# Altium integrated library Wurth-inductor.IntLib: 175 symbols (part 2 of 3)
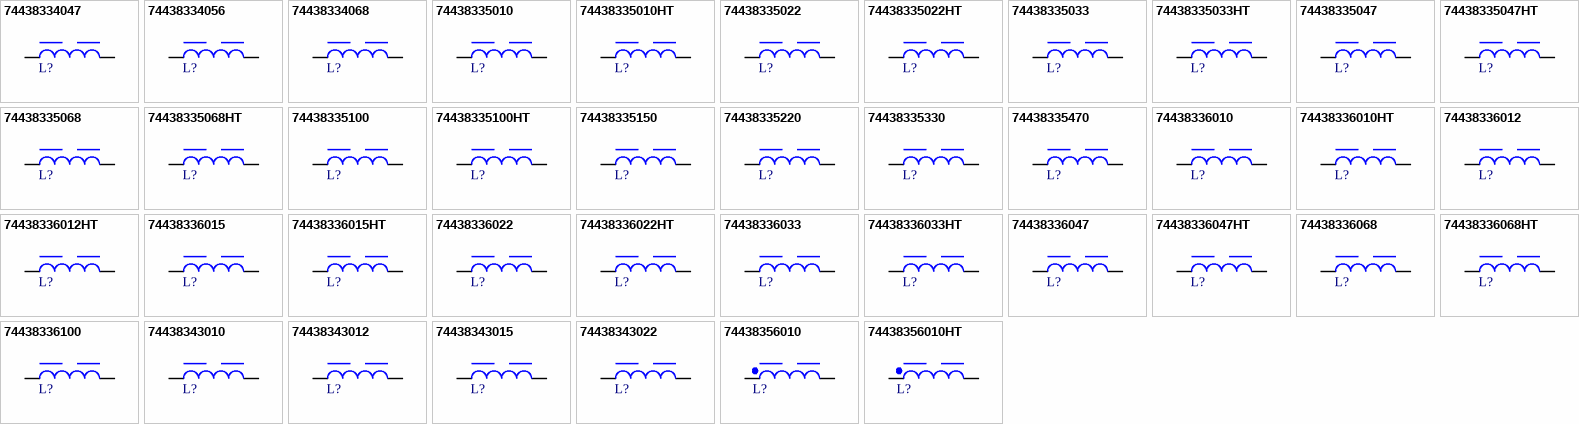
[diagram p5: symbols 74438334047 to 74438356010HT]

## 74438335470
designator L?, comment 47uH, 0.39A  (value not drawn)
WE-MAPI, size 3015, 47uH, 0.39A, 2300mOhm; Manufacturer Part Number: 74438335470; Manufacturer: Wurth Elektronik; Case/Size Code: 3015; DC Resistance: 2090mOhm; Saturation Current: 1.18A; Self Resonant Frequency: 8MHz; Match Code: WE-MAPI; ComponentLink1Description: Website Link; ComponentLink1URL: https://www.we-online.com/redexpert/article/74438335470?ad; ComponentLink2Description: Datasheet Link; ComponentLink2URL: https://www.we-online.com/redexpert/spec/74438335470?ad; Mount: Surface Mount; Operating Temperature Max: 125°C; Operating Temperature Min: -40°C; Packaging: Tape and Reel; Length: 3mm; Width: 3mm; Height: 1.5mm; DC Resistance Max: 2300mOhm; Inductance: 47uH; Rated Current: 0.39A
footprint WE-MAPI_3015
simulation model 3015_74438335470_47u
pins: 1, 2

## 74438336010
designator L?, comment 1uH, 4A  (value not drawn)
WE-MAPI, size 3020, 1uH, 4A, 32mOhm; Manufacturer Part Number: 74438336010; Manufacturer: Wurth Elektronik; Case/Size Code: 3020; DC Resistance: 26mOhm; Saturation Current: 5A; Self Resonant Frequency: 67MHz; Match Code: WE-MAPI; ComponentLink1Description: Website Link; ComponentLink1URL: https://www.we-online.com/redexpert/article/74438336010?ad; ComponentLink2Description: Datasheet Link; ComponentLink2URL: https://www.we-online.com/redexpert/spec/74438336010?ad; Mount: Surface Mount; Operating Temperature Max: 125°C; Operating Temperature Min: -40°C; Packaging: Tape and Reel; Length: 3mm; Width: 3mm; Height: 2mm; DC Resistance Max: 32mOhm; Inductance: 1uH; Rated Current: 4A
footprint WE-MAPI_3020
simulation model 3020_74438336010_1u
pins: 1, 2

## 74438336010HT
designator L?, comment 1uH, 5.8A  (value not drawn)
WE-MAPI, size 3020, 1uH, 5.8A, 32.8mOhm; Manufacturer Part Number: 74438336010HT; Manufacturer: Wurth Elektronik; Case/Size Code: 3020; Operating Voltage (DC): 80V; Saturation Current: 6.3A; Self Resonant Frequency: 67MHz; Match Code: WE-MAPI; ComponentLink1Description: Website Link; ComponentLink1URL: https://www.we-online.com/redexpert/article/74438336010HT?ad; ComponentLink2Description: Datasheet Link; ComponentLink2URL: https://www.we-online.com/redexpert/spec/74438336010HT?ad; Mount: Surface Mount; Operating Temperature Max: 150°C; Operating Temperature Min: -55°C; Packaging: Tape and Reel; Length: 3mm; Width: 3mm; Height: 2mm; DC Resistance Max: 32.8mOhm; Inductance: 1uH; Rated Current: 5.8A
footprint WE-MAPI_3020
simulation model 3020HT_74438336010HT_1u
pins: 1, 2

## 74438336012
designator L?, comment 1.2uH, 3.9A  (value not drawn)
WE-MAPI, size 3020, 1.2uH, 3.9A, 36mOhm; Manufacturer Part Number: 74438336012; Manufacturer: Wurth Elektronik; Case/Size Code: 3020; DC Resistance: 30mOhm; Saturation Current: 4.75A; Self Resonant Frequency: 57MHz; Match Code: WE-MAPI; ComponentLink1Description: Website Link; ComponentLink1URL: https://www.we-online.com/redexpert/article/74438336012?ad; ComponentLink2Description: Datasheet Link; ComponentLink2URL: https://www.we-online.com/redexpert/spec/74438336012?ad; Mount: Surface Mount; Operating Temperature Max: 125°C; Operating Temperature Min: -40°C; Packaging: Tape and Reel; Length: 3mm; Width: 3mm; Height: 2mm; DC Resistance Max: 36mOhm; Inductance: 1.2uH; Rated Current: 3.9A
footprint WE-MAPI_3020
simulation model 3020_74438336012_1.2u
pins: 1, 2

## 74438336012HT
designator L?, comment 1.2uH, 5.4A  (value not drawn)
WE-MAPI, size 3020, 1.2uH, 5.4A, 37.5mOhm; Manufacturer Part Number: 74438336012HT; Manufacturer: Wurth Elektronik; Case/Size Code: 3020; Operating Voltage (DC): 80V; Saturation Current: 6A; Self Resonant Frequency: 60MHz; Match Code: WE-MAPI; ComponentLink1Description: Website Link; ComponentLink1URL: https://www.we-online.com/redexpert/article/74438336012HT?ad; ComponentLink2Description: Datasheet Link; ComponentLink2URL: https://www.we-online.com/redexpert/spec/74438336012HT?ad; Mount: Surface Mount; Operating Temperature Max: 150°C; Operating Temperature Min: -55°C; Packaging: Tape and Reel; Length: 3mm; Width: 3mm; Height: 2mm; DC Resistance Max: 37.5mOhm; Inductance: 1.2uH; Rated Current: 5.4A
footprint WE-MAPI_3020
simulation model 3020HT_74438336012HT_1.2u
pins: 1, 2

## 74438336015
designator L?, comment 1.5uH, 3.7A  (value not drawn)
WE-MAPI, size 3020, 1.5uH, 3.7A, 39mOhm; Manufacturer Part Number: 74438336015; Manufacturer: Wurth Elektronik; Case/Size Code: 3020; DC Resistance: 33mOhm; Saturation Current: 4.5A; Self Resonant Frequency: 51MHz; Match Code: WE-MAPI; ComponentLink1Description: Website Link; ComponentLink1URL: https://www.we-online.com/redexpert/article/74438336015?ad; ComponentLink2Description: Datasheet Link; ComponentLink2URL: https://www.we-online.com/redexpert/spec/74438336015?ad; Mount: Surface Mount; Operating Temperature Max: 125°C; Operating Temperature Min: -40°C; Packaging: Tape and Reel; Length: 3mm; Width: 3mm; Height: 2mm; DC Resistance Max: 39mOhm; Inductance: 1.5uH; Rated Current: 3.7A
footprint WE-MAPI_3020
simulation model 3020_74438336015_1.5u
pins: 1, 2

## 74438336015HT
designator L?, comment 1.5uH, 5.2A  (value not drawn)
WE-MAPI, size 3020, 1.5uH, 5.2A, 40.5mOhm; Manufacturer Part Number: 74438336015HT; Manufacturer: Wurth Elektronik; Case/Size Code: 3020; Operating Voltage (DC): 80V; Saturation Current: 5.5A; Self Resonant Frequency: 53MHz; Match Code: WE-MAPI; ComponentLink1Description: Website Link; ComponentLink1URL: https://www.we-online.com/redexpert/article/74438336015HT?ad; ComponentLink2Description: Datasheet Link; ComponentLink2URL: https://www.we-online.com/redexpert/spec/74438336015HT?ad; Mount: Surface Mount; Operating Temperature Max: 150°C; Operating Temperature Min: -55°C; Packaging: Tape and Reel; Length: 3mm; Width: 3mm; Height: 2mm; DC Resistance Max: 40.5mOhm; Inductance: 1.5uH; Rated Current: 5.2A
footprint WE-MAPI_3020
simulation model 3020HT_74438336015HT_1.5u
pins: 1, 2

## 74438336022
designator L?, comment 2.2uH, 2.4A  (value not drawn)
WE-MAPI, size 3020, 2.2uH, 2.4A, 80mOhm; Manufacturer Part Number: 74438336022; Manufacturer: Wurth Elektronik; Case/Size Code: 3020; DC Resistance: 67mOhm; Saturation Current: 4.3A; Self Resonant Frequency: 42MHz; Match Code: WE-MAPI; ComponentLink1Description: Website Link; ComponentLink1URL: https://www.we-online.com/redexpert/article/74438336022?ad; ComponentLink2Description: Datasheet Link; ComponentLink2URL: https://www.we-online.com/redexpert/spec/74438336022?ad; Mount: Surface Mount; Operating Temperature Max: 125°C; Operating Temperature Min: -40°C; Packaging: Tape and Reel; Length: 3mm; Width: 3mm; Height: 2mm; DC Resistance Max: 80mOhm; Inductance: 2.2uH; Rated Current: 2.4A
footprint WE-MAPI_3020
simulation model 3020_74438336022_2.2u
pins: 1, 2

## 74438336022HT
designator L?, comment 2.2uH, 6.4A  (value not drawn)
WE-MAPI, size 3020, 2.2uH, 6.4A, 65.5mOhm; Manufacturer Part Number: 74438336022HT; Manufacturer: Wurth Elektronik; Case/Size Code: 3020; Operating Voltage (DC): 80V; Saturation Current: 5.2A; Self Resonant Frequency: 47MHz; Match Code: WE-MAPI; ComponentLink1Description: Website Link; ComponentLink1URL: https://www.we-online.com/redexpert/article/74438336022HT?ad; ComponentLink2Description: Datasheet Link; ComponentLink2URL: https://www.we-online.com/redexpert/spec/74438336022HT?ad; Mount: Surface Mount; Operating Temperature Max: 150°C; Operating Temperature Min: -55°C; Packaging: Tape and Reel; Length: 3mm; Width: 3mm; Height: 2mm; DC Resistance Max: 65.5mOhm; Inductance: 2.2uH; Rated Current: 6.4A
footprint WE-MAPI_3020
simulation model 3020HT_74438336022HT_2.2u
pins: 1, 2

## 74438336033
designator L?, comment 3.3uH, 2.2A  (value not drawn)
WE-MAPI, size 3020, 3.3uH, 2.2A, 114mOhm; Manufacturer Part Number: 74438336033; Manufacturer: Wurth Elektronik; Case/Size Code: 3020; DC Resistance: 99mOhm; Saturation Current: 4.25A; Self Resonant Frequency: 39MHz; Match Code: WE-MAPI; ComponentLink1Description: Website Link; ComponentLink1URL: https://www.we-online.com/redexpert/article/74438336033?ad; ComponentLink2Description: Datasheet Link; ComponentLink2URL: https://www.we-online.com/redexpert/spec/74438336033?ad; Mount: Surface Mount; Operating Temperature Max: 125°C; Operating Temperature Min: -40°C; Packaging: Tape and Reel; Length: 3mm; Width: 3mm; Height: 2mm; DC Resistance Max: 114mOhm; Inductance: 3.3uH; Rated Current: 2.2A
footprint WE-MAPI_3020
simulation model 3020_74438336033_3.3u
pins: 1, 2

## 74438336033HT
designator L?, comment 3.3uH, 3.1A  (value not drawn)
WE-MAPI, size 3020, 3.3uH, 3.1A, 98.8mOhm; Manufacturer Part Number: 74438336033HT; Manufacturer: Wurth Elektronik; Case/Size Code: 3020; Operating Voltage (DC): 80V; Saturation Current: 4.3A; Self Resonant Frequency: 37MHz; Match Code: WE-MAPI; ComponentLink1Description: Website Link; ComponentLink1URL: https://www.we-online.com/redexpert/article/74438336033HT?ad; ComponentLink2Description: Datasheet Link; ComponentLink2URL: https://www.we-online.com/redexpert/spec/74438336033HT?ad; Mount: Surface Mount; Operating Temperature Max: 150°C; Operating Temperature Min: -55°C; Packaging: Tape and Reel; Length: 3mm; Width: 3mm; Height: 2mm; DC Resistance Max: 98.8mOhm; Inductance: 3.3uH; Rated Current: 3.1A
footprint WE-MAPI_3020
simulation model 3020HT_74438336033HT_3.3u
pins: 1, 2

## 74438336047
designator L?, comment 4.7uH, 1.9A  (value not drawn)
WE-MAPI, size 3020, 4.7uH, 1.9A, 158mOhm; Manufacturer Part Number: 74438336047; Manufacturer: Wurth Elektronik; Case/Size Code: 3020; DC Resistance: 137mOhm; Saturation Current: 3.9A; Self Resonant Frequency: 30MHz; Match Code: WE-MAPI; ComponentLink1Description: Website Link; ComponentLink1URL: https://www.we-online.com/redexpert/article/74438336047?ad; ComponentLink2Description: Datasheet Link; ComponentLink2URL: https://www.we-online.com/redexpert/spec/74438336047?ad; Mount: Surface Mount; Operating Temperature Max: 125°C; Operating Temperature Min: -40°C; Packaging: Tape and Reel; Length: 3mm; Width: 3mm; Height: 2mm; DC Resistance Max: 158mOhm; Inductance: 4.7uH; Rated Current: 1.9A
footprint WE-MAPI_3020
simulation model 3020_74438336047_4.7u
pins: 1, 2

## 74438336047HT
designator L?, comment 4.7uH, 2.5A  (value not drawn)
WE-MAPI, size 3020, 4.7uH, 2.5A, 150.2mOhm; Manufacturer Part Number: 74438336047HT; Manufacturer: Wurth Elektronik; Case/Size Code: 3020; Operating Voltage (DC): 80V; Saturation Current: 4.1A; Self Resonant Frequency: 28MHz; Match Code: WE-MAPI; ComponentLink1Description: Website Link; ComponentLink1URL: https://www.we-online.com/redexpert/article/74438336047HT?ad; ComponentLink2Description: Datasheet Link; ComponentLink2URL: https://www.we-online.com/redexpert/spec/74438336047HT?ad; Mount: Surface Mount; Operating Temperature Max: 150°C; Operating Temperature Min: -55°C; Packaging: Tape and Reel; Length: 3mm; Width: 3mm; Height: 2mm; DC Resistance Max: 150.2mOhm; Inductance: 4.7uH; Rated Current: 2.5A
footprint WE-MAPI_3020
simulation model 3020HT_74438336047HT_4.7u
pins: 1, 2

## 74438336068
designator L?, comment 6.8uH, 1.6A  (value not drawn)
WE-MAPI, size 3020, 6.8uH, 1.6A, 193mOhm; Manufacturer Part Number: 74438336068; Manufacturer: Wurth Elektronik; Case/Size Code: 3020; DC Resistance: 168mOhm; Saturation Current: 2.85A; Self Resonant Frequency: 22MHz; Match Code: WE-MAPI; ComponentLink1Description: Website Link; ComponentLink1URL: https://www.we-online.com/redexpert/article/74438336068?ad; ComponentLink2Description: Datasheet Link; ComponentLink2URL: https://www.we-online.com/redexpert/spec/74438336068?ad; Mount: Surface Mount; Operating Temperature Max: 125°C; Operating Temperature Min: -40°C; Packaging: Tape and Reel; Length: 3mm; Width: 3mm; Height: 2mm; DC Resistance Max: 193mOhm; Inductance: 6.8uH; Rated Current: 1.6A
footprint WE-MAPI_3020
simulation model 3020_74438336068_6.8u
pins: 1, 2

## 74438336068HT
designator L?, comment 6.8uH, 2A  (value not drawn)
WE-MAPI, size 3020, 6.8uH, 2A, 227.1mOhm; Manufacturer Part Number: 74438336068HT; Manufacturer: Wurth Elektronik; Case/Size Code: 3020; Operating Voltage (DC): 80V; Saturation Current: 3.7A; Self Resonant Frequency: 22MHz; Match Code: WE-MAPI; ComponentLink1Description: Website Link; ComponentLink1URL: https://www.we-online.com/redexpert/article/74438336068HT?ad; ComponentLink2Description: Datasheet Link; ComponentLink2URL: https://www.we-online.com/redexpert/spec/74438336068HT?ad; Mount: Surface Mount; Operating Temperature Max: 150°C; Operating Temperature Min: -55°C; Packaging: Tape and Reel; Length: 3mm; Width: 3mm; Height: 2mm; DC Resistance Max: 227.1mOhm; Inductance: 6.8uH; Rated Current: 2A
footprint WE-MAPI_3020
simulation model 3020HT_74438336068HT_6.8u
pins: 1, 2

## 74438336100
designator L?, comment 10uH, 1.2A  (value not drawn)
WE-MAPI, size 3020, 10uH, 1.2A, 322mOhm; Manufacturer Part Number: 74438336100; Manufacturer: Wurth Elektronik; Case/Size Code: 3020; DC Resistance: 280mOhm; Saturation Current: 2.35A; Self Resonant Frequency: 18MHz; Match Code: WE-MAPI; ComponentLink1Description: Website Link; ComponentLink1URL: https://www.we-online.com/redexpert/article/74438336100?ad; ComponentLink2Description: Datasheet Link; ComponentLink2URL: https://www.we-online.com/redexpert/spec/74438336100?ad; Mount: Surface Mount; Operating Temperature Max: 125°C; Operating Temperature Min: -40°C; Packaging: Tape and Reel; Length: 3mm; Width: 3mm; Height: 2mm; DC Resistance Max: 322mOhm; Inductance: 10uH; Rated Current: 1.2A
footprint WE-MAPI_3020
simulation model 3020_74438336100_10u
pins: 1, 2

## 74438343010
designator L?, comment 1uH, 1.8A  (value not drawn)
WE-MAPI, size 2010, 1uH, 1.8A, 104mOhm; Manufacturer Part Number: 74438343010; Manufacturer: Wurth Elektronik; Case/Size Code: 2010; DC Resistance: 86mOhm; Saturation Current: 3.9A; Self Resonant Frequency: 99MHz; Match Code: WE-MAPI; ComponentLink1Description: Website Link; ComponentLink1URL: https://www.we-online.com/redexpert/article/74438343010?ad; ComponentLink2Description: Datasheet Link; ComponentLink2URL: https://www.we-online.com/redexpert/spec/74438343010?ad; Mount: Surface Mount; Operating Temperature Max: 125°C; Operating Temperature Min: -40°C; Packaging: Tape and Reel; Length: 2mm; Width: 1.6mm; Height: 1mm; DC Resistance Max: 104mOhm; Inductance: 1uH; Rated Current: 1.8A
footprint WE-MAPI_2010
simulation model 2010_74438343010_1u
pins: 1, 2

## 74438343012
designator L?, comment 1.2uH, 1.5A  (value not drawn)
WE-MAPI, size 2010, 1.2uH, 1.5A, 136mOhm; Manufacturer Part Number: 74438343012; Manufacturer: Wurth Elektronik; Case/Size Code: 2010; DC Resistance: 114mOhm; Saturation Current: 3.8A; Self Resonant Frequency: 96MHz; Match Code: WE-MAPI; ComponentLink1Description: Website Link; ComponentLink1URL: https://www.we-online.com/redexpert/article/74438343012?ad; ComponentLink2Description: Datasheet Link; ComponentLink2URL: https://www.we-online.com/redexpert/spec/74438343012?ad; Mount: Surface Mount; Operating Temperature Max: 125°C; Operating Temperature Min: -40°C; Packaging: Tape and Reel; Length: 2mm; Width: 1.6mm; Height: 1mm; DC Resistance Max: 136mOhm; Inductance: 1.2uH; Rated Current: 1.5A
footprint WE-MAPI_2010
simulation model 2010_74438343012_1.2u
pins: 1, 2

## 74438343015
designator L?, comment 1.5uH, 1.3A  (value not drawn)
WE-MAPI, size 2010, 1.5uH, 1.3A, 180mOhm; Manufacturer Part Number: 74438343015; Manufacturer: Wurth Elektronik; Case/Size Code: 2010; DC Resistance: 150mOhm; Saturation Current: 3A; Self Resonant Frequency: 85MHz; Match Code: WE-MAPI; ComponentLink1Description: Website Link; ComponentLink1URL: https://www.we-online.com/redexpert/article/74438343015?ad; ComponentLink2Description: Datasheet Link; ComponentLink2URL: https://www.we-online.com/redexpert/spec/74438343015?ad; Mount: Surface Mount; Operating Temperature Max: 125°C; Operating Temperature Min: -40°C; Packaging: Tape and Reel; Length: 2mm; Width: 1.6mm; Height: 1mm; DC Resistance Max: 180mOhm; Inductance: 1.5uH; Rated Current: 1.3A
footprint WE-MAPI_2010
simulation model 2010_74438343015_1.5u
pins: 1, 2

## 74438343022
designator L?, comment 2.2uH, 1.1A  (value not drawn)
WE-MAPI, size 2010, 2.2uH, 1.1A, 270mOhm; Manufacturer Part Number: 74438343022; Manufacturer: Wurth Elektronik; Case/Size Code: 2010; DC Resistance: 225mOhm; Saturation Current: 2.5A; Self Resonant Frequency: 70MHz; Match Code: WE-MAPI; ComponentLink1Description: Website Link; ComponentLink1URL: https://www.we-online.com/redexpert/article/74438343022?ad; ComponentLink2Description: Datasheet Link; ComponentLink2URL: https://www.we-online.com/redexpert/spec/74438343022?ad; Mount: Surface Mount; Operating Temperature Max: 125°C; Operating Temperature Min: -40°C; Packaging: Tape and Reel; Length: 2mm; Width: 1.6mm; Height: 1mm; DC Resistance Max: 270mOhm; Inductance: 2.2uH; Rated Current: 1.1A
footprint WE-MAPI_2010
simulation model 2010_74438343022_2.2u
pins: 1, 2

## 74438356010
designator L?, comment 1uH, 7.2A  (value not drawn)
WE-MAPI, size 4020, 1uH, 7.2A, 15mOhm; Manufacturer Part Number: 74438356010; Manufacturer: Wurth Elektronik; Case/Size Code: 4020; DC Resistance: 12mOhm; Saturation Current: 9A; Self Resonant Frequency: 55MHz; Match Code: WE-MAPI; ComponentLink1Description: Website Link; ComponentLink1URL: https://www.we-online.com/redexpert/article/74438356010?ad; ComponentLink2Description: Datasheet Link; ComponentLink2URL: https://www.we-online.com/redexpert/spec/74438356010?ad; Mount: Surface Mount; Operating Temperature Max: 125°C; Operating Temperature Min: -40°C; Packaging: Tape and Reel; Length: 4.1mm; Width: 4.1mm; Height: 2.1mm; DC Resistance Max: 15mOhm; Inductance: 1uH; Rated Current: 7.2A
footprint WE-MAPI_4020
simulation model 4020_74438356010_1u
pins: 1, 2

## 74438356010HT
designator L?, comment 1uH, 7.2A  (value not drawn)
WE-MAPI, size 4020, 1uH, 7.2A, 15.5mOhm; Manufacturer Part Number: 74438356010HT; Manufacturer: Wurth Elektronik; Case/Size Code: 4020; DC Resistance: 13.5mOhm; Saturation Current: 6.5A; Self Resonant Frequency: 46MHz; Match Code: WE-MAPI; ComponentLink1Description: Website Link; ComponentLink1URL: https://www.we-online.com/redexpert/article/74438356010HT?ad; ComponentLink2Description: Datasheet Link; ComponentLink2URL: https://www.we-online.com/redexpert/spec/74438356010HT?ad; Mount: Surface Mount; Operating Temperature Max: 150°C; Operating Temperature Min: -55°C; Packaging: Tape and Reel; Length: 4.1mm; Width: 4.1mm; Height: 2.1mm; DC Resistance Max: 15.5mOhm; Inductance: 1uH; Rated Current: 7.2A
footprint WE-MAPI_4020
simulation model 4020_74438356010HT_1u
pins: 1, 2

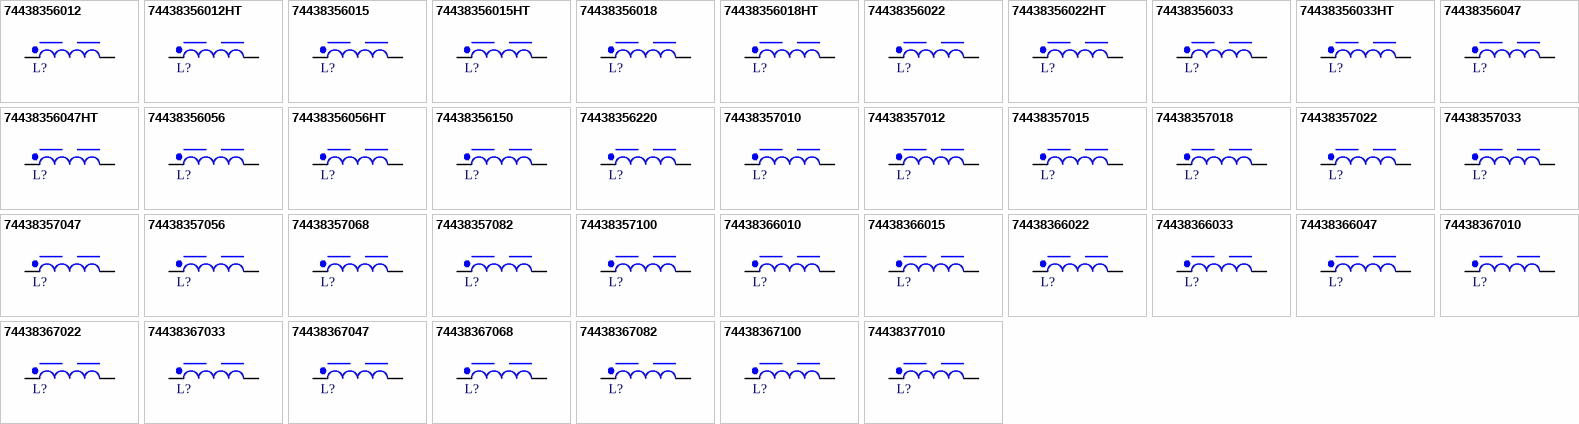
[diagram p2: symbols 74438356012 to 74438377010]

## 74438356012
designator L?, comment 1.2uH, 5.8A  (value not drawn)
WE-MAPI, size 4020, 1.2uH, 5.8A, 18mOhm; Manufacturer Part Number: 74438356012; Manufacturer: Wurth Elektronik; Case/Size Code: 4020; DC Resistance: 15mOhm; Saturation Current: 9A; Self Resonant Frequency: 52MHz; Match Code: WE-MAPI; ComponentLink1Description: Website Link; ComponentLink1URL: https://www.we-online.com/redexpert/article/74438356012?ad; ComponentLink2Description: Datasheet Link; ComponentLink2URL: https://www.we-online.com/redexpert/spec/74438356012?ad; Mount: Surface Mount; Operating Temperature Max: 125°C; Operating Temperature Min: -40°C; Packaging: Tape and Reel; Length: 4.1mm; Width: 4.1mm; Height: 2.1mm; DC Resistance Max: 18mOhm; Inductance: 1.2uH; Rated Current: 5.8A
footprint WE-MAPI_4020
simulation model 4020_74438356012_1.2u
pins: 1, 2

## 74438356012HT
designator L?, comment 1.2uH, 5.8A  (value not drawn)
WE-MAPI, size 4020, 1.2uH, 5.8A, 18.4mOhm; Manufacturer Part Number: 74438356012HT; Manufacturer: Wurth Elektronik; Case/Size Code: 4020; DC Resistance: 16mOhm; Saturation Current: 6.9A; Self Resonant Frequency: 45MHz; Match Code: WE-MAPI; ComponentLink1Description: Website Link; ComponentLink1URL: https://www.we-online.com/redexpert/article/74438356012HT?ad; ComponentLink2Description: Datasheet Link; ComponentLink2URL: https://www.we-online.com/redexpert/spec/74438356012HT?ad; Mount: Surface Mount; Operating Temperature Max: 150°C; Operating Temperature Min: -55°C; Packaging: Tape and Reel; Length: 4.1mm; Width: 4.1mm; Height: 2.1mm; DC Resistance Max: 18.4mOhm; Inductance: 1.2uH; Rated Current: 5.8A
footprint WE-MAPI_4020
simulation model 4020_74438356012HT_1.2u
pins: 1, 2

## 74438356015
designator L?, comment 1.5uH, 5.8A  (value not drawn)
WE-MAPI, size 4020, 1.5uH, 5.8A, 19mOhm; Manufacturer Part Number: 74438356015; Manufacturer: Wurth Elektronik; Case/Size Code: 4020; DC Resistance: 16mOhm; Saturation Current: 7.8A; Self Resonant Frequency: 48MHz; Match Code: WE-MAPI; ComponentLink1Description: Website Link; ComponentLink1URL: https://www.we-online.com/redexpert/article/74438356015?ad; ComponentLink2Description: Datasheet Link; ComponentLink2URL: https://www.we-online.com/redexpert/spec/74438356015?ad; Mount: Surface Mount; Operating Temperature Max: 125°C; Operating Temperature Min: -40°C; Packaging: Tape and Reel; Length: 4.1mm; Width: 4.1mm; Height: 2.1mm; DC Resistance Max: 19mOhm; Inductance: 1.5uH; Rated Current: 5.8A
footprint WE-MAPI_4020
simulation model 4020_74438356015_1.5u
pins: 1, 2

## 74438356015HT
designator L?, comment 1.5uH, 5.5A  (value not drawn)
WE-MAPI, size 4020, 1.5uH, 5.5A, 20.7mOhm; Manufacturer Part Number: 74438356015HT; Manufacturer: Wurth Elektronik; Case/Size Code: 4020; DC Resistance: 18mOhm; Saturation Current: 6.6A; Self Resonant Frequency: 40MHz; Match Code: WE-MAPI; ComponentLink1Description: Website Link; ComponentLink1URL: https://www.we-online.com/redexpert/article/74438356015HT?ad; ComponentLink2Description: Datasheet Link; ComponentLink2URL: https://www.we-online.com/redexpert/spec/74438356015HT?ad; Mount: Surface Mount; Operating Temperature Max: 150°C; Operating Temperature Min: -55°C; Packaging: Tape and Reel; Length: 4.1mm; Width: 4.1mm; Height: 2.1mm; DC Resistance Max: 20.7mOhm; Inductance: 1.5uH; Rated Current: 5.5A
footprint WE-MAPI_4020
simulation model 4020_74438356015HT_1.5u
pins: 1, 2

## 74438356018
designator L?, comment 1.8uH, 4.6A  (value not drawn)
WE-MAPI, size 4020, 1.8uH, 4.6A, 30mOhm; Manufacturer Part Number: 74438356018; Manufacturer: Wurth Elektronik; Case/Size Code: 4020; DC Resistance: 24.5mOhm; Saturation Current: 6.5A; Self Resonant Frequency: 40MHz; Match Code: WE-MAPI; ComponentLink1Description: Website Link; ComponentLink1URL: https://www.we-online.com/redexpert/article/74438356018?ad; ComponentLink2Description: Datasheet Link; ComponentLink2URL: https://www.we-online.com/redexpert/spec/74438356018?ad; Mount: Surface Mount; Operating Temperature Max: 125°C; Operating Temperature Min: -40°C; Packaging: Tape and Reel; Length: 4.1mm; Width: 4.1mm; Height: 2.1mm; DC Resistance Max: 30mOhm; Inductance: 1.8uH; Rated Current: 4.6A
footprint WE-MAPI_4020
simulation model 4020_74438356018_1.8u
pins: 1, 2

## 74438356018HT
designator L?, comment 1.8uH, 4.6A  (value not drawn)
WE-MAPI, size 4020, 1.8uH, 4.6A, 29.9mOhm; Manufacturer Part Number: 74438356018HT; Manufacturer: Wurth Elektronik; Case/Size Code: 4020; DC Resistance: 26mOhm; Saturation Current: 6.2A; Self Resonant Frequency: 37.5MHz; Match Code: WE-MAPI; ComponentLink1Description: Website Link; ComponentLink1URL: https://www.we-online.com/redexpert/article/74438356018HT?ad; ComponentLink2Description: Datasheet Link; ComponentLink2URL: https://www.we-online.com/redexpert/spec/74438356018HT?ad; Mount: Surface Mount; Operating Temperature Max: 150°C; Operating Temperature Min: -55°C; Packaging: Tape and Reel; Length: 4.1mm; Width: 4.1mm; Height: 2.1mm; DC Resistance Max: 29.9mOhm; Inductance: 1.8uH; Rated Current: 4.6A
footprint WE-MAPI_4020
simulation model 4020_74438356018HT_1.8u
pins: 1, 2

## 74438356022
designator L?, comment 2.2uH, 4.7A  (value not drawn)
WE-MAPI, size 4020, 2.2uH, 4.7A, 35mOhm; Manufacturer Part Number: 74438356022; Manufacturer: Wurth Elektronik; Case/Size Code: 4020; DC Resistance: 29mOhm; Saturation Current: 6.2A; Self Resonant Frequency: 34MHz; Match Code: WE-MAPI; ComponentLink1Description: Website Link; ComponentLink1URL: https://www.we-online.com/redexpert/article/74438356022?ad; ComponentLink2Description: Datasheet Link; ComponentLink2URL: https://www.we-online.com/redexpert/spec/74438356022?ad; Mount: Surface Mount; Operating Temperature Max: 125°C; Operating Temperature Min: -40°C; Packaging: Tape and Reel; Length: 4.1mm; Width: 4.1mm; Height: 2.1mm; DC Resistance Max: 35mOhm; Inductance: 2.2uH; Rated Current: 4.7A
footprint WE-MAPI_4020
simulation model 4020_74438356022_2.2u
pins: 1, 2

## 74438356022HT
designator L?, comment 2.2uH, 4.5A  (value not drawn)
WE-MAPI, size 4020, 2.2uH, 4.5A, 32.2mOhm; Manufacturer Part Number: 74438356022HT; Manufacturer: Wurth Elektronik; Case/Size Code: 4020; DC Resistance: 28mOhm; Saturation Current: 5.6A; Self Resonant Frequency: 30MHz; Match Code: WE-MAPI; ComponentLink1Description: Website Link; ComponentLink1URL: https://www.we-online.com/redexpert/article/74438356022HT?ad; ComponentLink2Description: Datasheet Link; ComponentLink2URL: https://www.we-online.com/redexpert/spec/74438356022HT?ad; Mount: Surface Mount; Operating Temperature Max: 150°C; Operating Temperature Min: -55°C; Packaging: Tape and Reel; Length: 4.1mm; Width: 4.1mm; Height: 2.1mm; DC Resistance Max: 32.2mOhm; Inductance: 2.2uH; Rated Current: 4.5A
footprint WE-MAPI_4020
simulation model 4020_74438356022HT_2.2u
pins: 1, 2

## 74438356033
designator L?, comment 3.3uH, 3.6A  (value not drawn)
WE-MAPI, size 4020, 3.3uH, 3.6A, 48mOhm; Manufacturer Part Number: 74438356033; Manufacturer: Wurth Elektronik; Case/Size Code: 4020; DC Resistance: 39.9mOhm; Saturation Current: 5.5A; Self Resonant Frequency: 26MHz; Match Code: WE-MAPI; ComponentLink1Description: Website Link; ComponentLink1URL: https://www.we-online.com/redexpert/article/74438356033?ad; ComponentLink2Description: Datasheet Link; ComponentLink2URL: https://www.we-online.com/redexpert/spec/74438356033?ad; Mount: Surface Mount; Operating Temperature Max: 125°C; Operating Temperature Min: -40°C; Packaging: Tape and Reel; Length: 4.1mm; Width: 4.1mm; Height: 2.1mm; DC Resistance Max: 48mOhm; Inductance: 3.3uH; Rated Current: 3.6A
footprint WE-MAPI_4020
simulation model 4020_74438356033_3.3u
pins: 1, 2

## 74438356033HT
designator L?, comment 3.3uH, 3.6A  (value not drawn)
WE-MAPI, size 4020, 3.3uH, 3.6A, 51.8mOhm; Manufacturer Part Number: 74438356033HT; Manufacturer: Wurth Elektronik; Case/Size Code: 4020; DC Resistance: 45mOhm; Saturation Current: 4.8A; Self Resonant Frequency: 25.5MHz; Match Code: WE-MAPI; ComponentLink1Description: Website Link; ComponentLink1URL: https://www.we-online.com/redexpert/article/74438356033HT?ad; ComponentLink2Description: Datasheet Link; ComponentLink2URL: https://www.we-online.com/redexpert/spec/74438356033HT?ad; Mount: Surface Mount; Operating Temperature Max: 150°C; Operating Temperature Min: -55°C; Packaging: Tape and Reel; Length: 4.1mm; Width: 4.1mm; Height: 2.1mm; DC Resistance Max: 51.8mOhm; Inductance: 3.3uH; Rated Current: 3.6A
footprint WE-MAPI_4020
simulation model 4020_74438356033HT_3.3u
pins: 1, 2

## 74438356047
designator L?, comment 4.7uH, 2.9A  (value not drawn)
WE-MAPI, size 4020, 4.7uH, 2.9A, 76mOhm; Manufacturer Part Number: 74438356047; Manufacturer: Wurth Elektronik; Case/Size Code: 4020; DC Resistance: 63mOhm; Saturation Current: 4.7A; Self Resonant Frequency: 22MHz; Match Code: WE-MAPI; ComponentLink1Description: Website Link; ComponentLink1URL: https://www.we-online.com/redexpert/article/74438356047?ad; ComponentLink2Description: Datasheet Link; ComponentLink2URL: https://www.we-online.com/redexpert/spec/74438356047?ad; Mount: Surface Mount; Operating Temperature Max: 125°C; Operating Temperature Min: -40°C; Packaging: Tape and Reel; Length: 4.1mm; Width: 4.1mm; Height: 2.1mm; DC Resistance Max: 76mOhm; Inductance: 4.7uH; Rated Current: 2.9A
footprint WE-MAPI_4020
simulation model 4020_74438356047_4.7u
pins: 1, 2

## 74438356047HT
designator L?, comment 4.7uH, 3A  (value not drawn)
WE-MAPI, size 4020, 4.7uH, 3A, 74.8mOhm; Manufacturer Part Number: 74438356047HT; Manufacturer: Wurth Elektronik; Case/Size Code: 4020; DC Resistance: 65mOhm; Saturation Current: 3.7A; Self Resonant Frequency: 18MHz; Match Code: WE-MAPI; ComponentLink1Description: Website Link; ComponentLink1URL: https://www.we-online.com/redexpert/article/74438356047HT?ad; ComponentLink2Description: Datasheet Link; ComponentLink2URL: https://www.we-online.com/redexpert/spec/74438356047HT?ad; Mount: Surface Mount; Operating Temperature Max: 150°C; Operating Temperature Min: -55°C; Packaging: Tape and Reel; Length: 4.1mm; Width: 4.1mm; Height: 2.1mm; DC Resistance Max: 74.8mOhm; Inductance: 4.7uH; Rated Current: 3A
footprint WE-MAPI_4020
simulation model 4020_74438356047HT_4.7u
pins: 1, 2

## 74438356056
designator L?, comment 5.6uH, 2.8A  (value not drawn)
WE-MAPI, size 4020, 5.6uH, 2.8A, 81mOhm; Manufacturer Part Number: 74438356056; Manufacturer: Wurth Elektronik; Case/Size Code: 4020; DC Resistance: 68mOhm; Saturation Current: 4.6A; Self Resonant Frequency: 20MHz; Match Code: WE-MAPI; ComponentLink1Description: Website Link; ComponentLink1URL: https://www.we-online.com/redexpert/article/74438356056?ad; ComponentLink2Description: Datasheet Link; ComponentLink2URL: https://www.we-online.com/redexpert/spec/74438356056?ad; Mount: Surface Mount; Operating Temperature Max: 125°C; Operating Temperature Min: -40°C; Packaging: Tape and Reel; Length: 4.1mm; Width: 4.1mm; Height: 2.1mm; DC Resistance Max: 81mOhm; Inductance: 5.6uH; Rated Current: 2.8A
footprint WE-MAPI_4020
simulation model 4020_74438356056_5.6u
pins: 1, 2

## 74438356056HT
designator L?, comment 5.6uH, 2.9A  (value not drawn)
WE-MAPI, size 4020, 5.6uH, 2.9A, 80.5mOhm; Manufacturer Part Number: 74438356056HT; Manufacturer: Wurth Elektronik; Case/Size Code: 4020; DC Resistance: 70mOhm; Saturation Current: 3.5A; Self Resonant Frequency: 17MHz; Match Code: WE-MAPI; ComponentLink1Description: Website Link; ComponentLink1URL: https://www.we-online.com/redexpert/article/74438356056HT?ad; ComponentLink2Description: Datasheet Link; ComponentLink2URL: https://www.we-online.com/redexpert/spec/74438356056HT?ad; Mount: Surface Mount; Operating Temperature Max: 150°C; Operating Temperature Min: -55°C; Packaging: Tape and Reel; Length: 4.1mm; Width: 4.1mm; Height: 2.1mm; DC Resistance Max: 80.5mOhm; Inductance: 5.6uH; Rated Current: 2.9A
footprint WE-MAPI_4020
simulation model 4020_74438356056HT_5.6u
pins: 1, 2

## 74438356150
designator L?, comment 15uH, 1.9A  (value not drawn)
WE-MAPI, size 4020, 15uH, 1.9A, 230mOhm; Manufacturer Part Number: 74438356150; Manufacturer: Wurth Elektronik; Case/Size Code: 4020; DC Resistance: 200mOhm; Saturation Current: 2.1A; Self Resonant Frequency: 14MHz; Match Code: WE-MAPI; ComponentLink1Description: Website Link; ComponentLink1URL: https://www.we-online.com/redexpert/article/74438356150?ad; ComponentLink2Description: Datasheet Link; ComponentLink2URL: https://www.we-online.com/redexpert/spec/74438356150?ad; Mount: Surface Mount; Operating Temperature Max: 125°C; Operating Temperature Min: -40°C; Packaging: Tape and Reel; Length: 4.1mm; Width: 4.1mm; Height: 2.1mm; DC Resistance Max: 230mOhm; Inductance: 15uH; Rated Current: 1.9A
footprint WE-MAPI_4020
simulation model 4020_74438356150_15u
pins: 1, 2

## 74438356220
designator L?, comment 22uH, 1.7A  (value not drawn)
WE-MAPI, size 4020, 22uH, 1.7A, 280mOhm; Manufacturer Part Number: 74438356220; Manufacturer: Wurth Elektronik; Case/Size Code: 4020; DC Resistance: 250mOhm; Saturation Current: 1.85A; Self Resonant Frequency: 11MHz; Match Code: WE-MAPI; ComponentLink1Description: Website Link; ComponentLink1URL: https://www.we-online.com/redexpert/article/74438356220?ad; ComponentLink2Description: Datasheet Link; ComponentLink2URL: https://www.we-online.com/redexpert/spec/74438356220?ad; Mount: Surface Mount; Operating Temperature Max: 125°C; Operating Temperature Min: -40°C; Packaging: Tape and Reel; Length: 4.1mm; Width: 4.1mm; Height: 2.1mm; DC Resistance Max: 280mOhm; Inductance: 22uH; Rated Current: 1.7A
footprint WE-MAPI_4020
simulation model 4020_74438356220_22u
pins: 1, 2

## 74438357010
designator L?, comment 1uH, 7.4A  (value not drawn)
WE-MAPI, size 4030, 1uH, 7.4A, 13.5mOhm; Manufacturer Part Number: 74438357010; Manufacturer: Wurth Elektronik; Case/Size Code: 4030; DC Resistance: 11.6mOhm; Saturation Current: 9.6A; Self Resonant Frequency: 59MHz; Match Code: WE-MAPI; ComponentLink1Description: Website Link; ComponentLink1URL: https://www.we-online.com/redexpert/article/74438357010?ad; ComponentLink2Description: Datasheet Link; ComponentLink2URL: https://www.we-online.com/redexpert/spec/74438357010?ad; Mount: Surface Mount; Operating Temperature Max: 125°C; Operating Temperature Min: -40°C; Packaging: Tape and Reel; Length: 4.1mm; Width: 4.1mm; Height: 3.1mm; DC Resistance Max: 13.5mOhm; Inductance: 1uH; Rated Current: 7.4A
footprint WE-MAPI_4030
simulation model 4030_74438357010_1u
pins: 1, 2

## 74438357012
designator L?, comment 1.2uH, 7A  (value not drawn)
WE-MAPI, size 4030, 1.2uH, 7A, 15.5mOhm; Manufacturer Part Number: 74438357012; Manufacturer: Wurth Elektronik; Case/Size Code: 4030; DC Resistance: 13.4mOhm; Saturation Current: 8.8A; Self Resonant Frequency: 51MHz; Match Code: WE-MAPI; ComponentLink1Description: Website Link; ComponentLink1URL: https://www.we-online.com/redexpert/article/74438357012?ad; ComponentLink2Description: Datasheet Link; ComponentLink2URL: https://www.we-online.com/redexpert/spec/74438357012?ad; Mount: Surface Mount; Operating Temperature Max: 125°C; Operating Temperature Min: -40°C; Packaging: Tape and Reel; Length: 4.1mm; Width: 4.1mm; Height: 3.1mm; DC Resistance Max: 15.5mOhm; Inductance: 1.2uH; Rated Current: 7A
footprint WE-MAPI_4030
simulation model 4030_74438357012_1.2u
pins: 1, 2

## 74438357015
designator L?, comment 1.5uH, 6.2A  (value not drawn)
WE-MAPI, size 4030, 1.5uH, 6.2A, 20mOhm; Manufacturer Part Number: 74438357015; Manufacturer: Wurth Elektronik; Case/Size Code: 4030; DC Resistance: 17.1mOhm; Saturation Current: 8.5A; Self Resonant Frequency: 48MHz; Match Code: WE-MAPI; ComponentLink1Description: Website Link; ComponentLink1URL: https://www.we-online.com/redexpert/article/74438357015?ad; ComponentLink2Description: Datasheet Link; ComponentLink2URL: https://www.we-online.com/redexpert/spec/74438357015?ad; Mount: Surface Mount; Operating Temperature Max: 125°C; Operating Temperature Min: -40°C; Packaging: Tape and Reel; Length: 4.1mm; Width: 4.1mm; Height: 3.1mm; DC Resistance Max: 20mOhm; Inductance: 1.5uH; Rated Current: 6.2A
footprint WE-MAPI_4030
simulation model 4030_74438357015_1.5u
pins: 1, 2

## 74438357018
designator L?, comment 1.8uH, 5.8A  (value not drawn)
WE-MAPI, size 4030, 1.8uH, 5.8A, 21mOhm; Manufacturer Part Number: 74438357018; Manufacturer: Wurth Elektronik; Case/Size Code: 4030; DC Resistance: 18mOhm; Saturation Current: 8A; Self Resonant Frequency: 42MHz; Match Code: WE-MAPI; ComponentLink1Description: Website Link; ComponentLink1URL: https://www.we-online.com/redexpert/article/74438357018?ad; ComponentLink2Description: Datasheet Link; ComponentLink2URL: https://www.we-online.com/redexpert/spec/74438357018?ad; Mount: Surface Mount; Operating Temperature Max: 125°C; Operating Temperature Min: -40°C; Packaging: Tape and Reel; Length: 4.1mm; Width: 4.1mm; Height: 3.1mm; DC Resistance Max: 21mOhm; Inductance: 1.8uH; Rated Current: 5.8A
footprint WE-MAPI_4030
simulation model 4030_74438357018_1.8u
pins: 1, 2

## 74438357022
designator L?, comment 2.2uH, 5.2A  (value not drawn)
WE-MAPI, size 4030, 2.2uH, 5.2A, 26mOhm; Manufacturer Part Number: 74438357022; Manufacturer: Wurth Elektronik; Case/Size Code: 4030; DC Resistance: 22mOhm; Saturation Current: 7A; Self Resonant Frequency: 35MHz; Match Code: WE-MAPI; ComponentLink1Description: Website Link; ComponentLink1URL: https://www.we-online.com/redexpert/article/74438357022?ad; ComponentLink2Description: Datasheet Link; ComponentLink2URL: https://www.we-online.com/redexpert/spec/74438357022?ad; Mount: Surface Mount; Operating Temperature Max: 125°C; Operating Temperature Min: -40°C; Packaging: Tape and Reel; Length: 4.1mm; Width: 4.1mm; Height: 3.1mm; DC Resistance Max: 26mOhm; Inductance: 2.2uH; Rated Current: 5.2A
footprint WE-MAPI_4030
simulation model 4030_74438357022_2.2u
pins: 1, 2

## 74438357033
designator L?, comment 3.3uH, 5A  (value not drawn)
WE-MAPI, size 4030, 3.3uH, 5A, 33.5mOhm; Manufacturer Part Number: 74438357033; Manufacturer: Wurth Elektronik; Case/Size Code: 4030; DC Resistance: 29mOhm; Self Resonant Frequency: 26MHz; Match Code: WE-MAPI; ComponentLink1Description: Website Link; ComponentLink1URL: https://www.we-online.com/redexpert/article/74438357033?ad; ComponentLink2Description: Datasheet Link; ComponentLink2URL: https://www.we-online.com/redexpert/spec/74438357033?ad; Mount: Surface Mount; Operating Temperature Max: 125°C; Operating Temperature Min: -40°C; Packaging: Tape and Reel; Length: 4.1mm; Width: 4.1mm; Height: 3.1mm; DC Resistance Max: 33.5mOhm; Inductance: 3.3uH; Rated Current: 5A; Saturation Current: 5A
footprint WE-MAPI_4030
simulation model 4030_74438357033_3.3u
pins: 1, 2

## 74438357047
designator L?, comment 4.7uH, 3.9A  (value not drawn)
WE-MAPI, size 4030, 4.7uH, 3.9A, 44mOhm; Manufacturer Part Number: 74438357047; Manufacturer: Wurth Elektronik; Case/Size Code: 4030; DC Resistance: 39.9mOhm; Saturation Current: 6.4A; Self Resonant Frequency: 24MHz; Match Code: WE-MAPI; ComponentLink1Description: Website Link; ComponentLink1URL: https://www.we-online.com/redexpert/article/74438357047?ad; ComponentLink2Description: Datasheet Link; ComponentLink2URL: https://www.we-online.com/redexpert/spec/74438357047?ad; Mount: Surface Mount; Operating Temperature Max: 125°C; Operating Temperature Min: -40°C; Packaging: Tape and Reel; Length: 4.1mm; Width: 4.1mm; Height: 3.1mm; DC Resistance Max: 44mOhm; Inductance: 4.7uH; Rated Current: 3.9A
footprint WE-MAPI_4030
simulation model 4030_74438357047_4.7u
pins: 1, 2

## 74438357056
designator L?, comment 5.6uH, 3.6A  (value not drawn)
WE-MAPI, size 4030, 5.6uH, 3.6A, 51mOhm; Manufacturer Part Number: 74438357056; Manufacturer: Wurth Elektronik; Case/Size Code: 4030; DC Resistance: 46.5mOhm; Saturation Current: 6A; Self Resonant Frequency: 21MHz; Match Code: WE-MAPI; ComponentLink1Description: Website Link; ComponentLink1URL: https://www.we-online.com/redexpert/article/74438357056?ad; ComponentLink2Description: Datasheet Link; ComponentLink2URL: https://www.we-online.com/redexpert/spec/74438357056?ad; Mount: Surface Mount; Operating Temperature Max: 125°C; Operating Temperature Min: -40°C; Packaging: Tape and Reel; Length: 4.1mm; Width: 4.1mm; Height: 3.1mm; DC Resistance Max: 51mOhm; Inductance: 5.6uH; Rated Current: 3.6A
footprint WE-MAPI_4030
simulation model 4030_74438357056_5.6u
pins: 1, 2

## 74438357068
designator L?, comment 6.8uH, 3A  (value not drawn)
WE-MAPI, size 4030, 6.8uH, 3A, 74mOhm; Manufacturer Part Number: 74438357068; Manufacturer: Wurth Elektronik; Case/Size Code: 4030; DC Resistance: 69.4mOhm; Saturation Current: 5.5A; Self Resonant Frequency: 19.5MHz; Match Code: WE-MAPI; ComponentLink1Description: Website Link; ComponentLink1URL: https://www.we-online.com/redexpert/article/74438357068?ad; ComponentLink2Description: Datasheet Link; ComponentLink2URL: https://www.we-online.com/redexpert/spec/74438357068?ad; Mount: Surface Mount; Operating Temperature Max: 125°C; Operating Temperature Min: -40°C; Packaging: Tape and Reel; Length: 4.1mm; Width: 4.1mm; Height: 3.1mm; DC Resistance Max: 74mOhm; Inductance: 6.8uH; Rated Current: 3A
footprint WE-MAPI_4030
simulation model 4030_74438357068_6.8u
pins: 1, 2

## 74438357082
designator L?, comment 8.2uH, 2.8A  (value not drawn)
WE-MAPI, size 4030, 8.2uH, 2.8A, 86mOhm; Manufacturer Part Number: 74438357082; Manufacturer: Wurth Elektronik; Case/Size Code: 4030; DC Resistance: 81mOhm; Saturation Current: 5.2A; Self Resonant Frequency: 17MHz; Match Code: WE-MAPI; ComponentLink1Description: Website Link; ComponentLink1URL: https://www.we-online.com/redexpert/article/74438357082?ad; ComponentLink2Description: Datasheet Link; ComponentLink2URL: https://www.we-online.com/redexpert/spec/74438357082?ad; Mount: Surface Mount; Operating Temperature Max: 125°C; Operating Temperature Min: -40°C; Packaging: Tape and Reel; Length: 4.1mm; Width: 4.1mm; Height: 3.1mm; DC Resistance Max: 86mOhm; Inductance: 8.2uH; Rated Current: 2.8A
footprint WE-MAPI_4030
simulation model 4030_74438357082_8.2u
pins: 1, 2

## 74438357100
designator L?, comment 10uH, 2.7A  (value not drawn)
WE-MAPI, size 4030, 10uH, 2.7A, 110mOhm; Manufacturer Part Number: 74438357100; Manufacturer: Wurth Elektronik; Case/Size Code: 4030; DC Resistance: 100.8mOhm; Saturation Current: 4.6A; Self Resonant Frequency: 15MHz; Match Code: WE-MAPI; ComponentLink1Description: Website Link; ComponentLink1URL: https://www.we-online.com/redexpert/article/74438357100?ad; ComponentLink2Description: Datasheet Link; ComponentLink2URL: https://www.we-online.com/redexpert/spec/74438357100?ad; Mount: Surface Mount; Operating Temperature Max: 125°C; Operating Temperature Min: -40°C; Packaging: Tape and Reel; Length: 4.1mm; Width: 4.1mm; Height: 3.1mm; DC Resistance Max: 110mOhm; Inductance: 10uH; Rated Current: 2.7A
footprint WE-MAPI_4030
simulation model 4030_74438357100_10u
pins: 1, 2

## 74438366010
designator L?, comment 1uH, 7.8A  (value not drawn)
WE-MAPI, size 5020, 1uH, 7.8A, 13.1mOhm; Manufacturer Part Number: 74438366010; Manufacturer: Wurth Elektronik; Case/Size Code: 5020; DC Resistance: 11.4mOhm; Saturation Current: 10A; Self Resonant Frequency: 50MHz; Match Code: WE-MAPI; ComponentLink1Description: Website Link; ComponentLink1URL: https://www.we-online.com/redexpert/article/74438366010?ad; ComponentLink2Description: Datasheet Link; ComponentLink2URL: https://www.we-online.com/redexpert/spec/74438366010?ad; Mount: Surface Mount; Operating Temperature Max: 125°C; Operating Temperature Min: -40°C; Packaging: Tape and Reel; Length: 5.4mm; Width: 5.4mm; Height: 2.1mm; DC Resistance Max: 13.1mOhm; Inductance: 1uH; Rated Current: 7.8A
footprint WE-MAPI_5020
simulation model 5020_74438366010_1u
pins: 1, 2

## 74438366015
designator L?, comment 1.5uH, 6.7A  (value not drawn)
WE-MAPI, size 5020, 1.5uH, 6.7A, 21.3mOhm; Manufacturer Part Number: 74438366015; Manufacturer: Wurth Elektronik; Case/Size Code: 5020; DC Resistance: 18.5mOhm; Saturation Current: 9.5A; Self Resonant Frequency: 35MHz; Match Code: WE-MAPI; ComponentLink1Description: Website Link; ComponentLink1URL: https://www.we-online.com/redexpert/article/74438366015?ad; ComponentLink2Description: Datasheet Link; ComponentLink2URL: https://www.we-online.com/redexpert/spec/74438366015?ad; Mount: Surface Mount; Operating Temperature Max: 125°C; Operating Temperature Min: -40°C; Packaging: Tape and Reel; Length: 5.4mm; Width: 5.4mm; Height: 2.1mm; DC Resistance Max: 21.3mOhm; Inductance: 1.5uH; Rated Current: 6.7A
footprint WE-MAPI_5020
simulation model 5020_74438366015_1.5u
pins: 1, 2

## 74438366022
designator L?, comment 2.2uH, 6A  (value not drawn)
WE-MAPI, size 5020, 2.2uH, 6A, 27.3mOhm; Manufacturer Part Number: 74438366022; Manufacturer: Wurth Elektronik; Case/Size Code: 5020; DC Resistance: 23.7mOhm; Saturation Current: 9A; Self Resonant Frequency: 31.5MHz; Match Code: WE-MAPI; ComponentLink1Description: Website Link; ComponentLink1URL: https://www.we-online.com/redexpert/article/74438366022?ad; ComponentLink2Description: Datasheet Link; ComponentLink2URL: https://www.we-online.com/redexpert/spec/74438366022?ad; Mount: Surface Mount; Operating Temperature Max: 125°C; Operating Temperature Min: -40°C; Packaging: Tape and Reel; Length: 5.4mm; Width: 5.4mm; Height: 2.1mm; DC Resistance Max: 27.3mOhm; Inductance: 2.2uH; Rated Current: 6A
footprint WE-MAPI_5020
simulation model 5020_74438366022_2.2u
pins: 1, 2

## 74438366033
designator L?, comment 3.3uH, 5A  (value not drawn)
WE-MAPI, size 5020, 3.3uH, 5A, 38.4mOhm; Manufacturer Part Number: 74438366033; Manufacturer: Wurth Elektronik; Case/Size Code: 5020; DC Resistance: 33.4mOhm; Saturation Current: 7A; Self Resonant Frequency: 23MHz; Match Code: WE-MAPI; ComponentLink1Description: Website Link; ComponentLink1URL: https://www.we-online.com/redexpert/article/74438366033?ad; ComponentLink2Description: Datasheet Link; ComponentLink2URL: https://www.we-online.com/redexpert/spec/74438366033?ad; Mount: Surface Mount; Operating Temperature Max: 125°C; Operating Temperature Min: -40°C; Packaging: Tape and Reel; Length: 5.4mm; Width: 5.4mm; Height: 2.1mm; DC Resistance Max: 38.4mOhm; Inductance: 3.3uH; Rated Current: 5A
footprint WE-MAPI_5020
simulation model 5020_74438366033_3.3u
pins: 1, 2

## 74438366047
designator L?, comment 4.7uH, 4.1A  (value not drawn)
WE-MAPI, size 5020, 4.7uH, 4.1A, 63mOhm; Manufacturer Part Number: 74438366047; Manufacturer: Wurth Elektronik; Case/Size Code: 5020; DC Resistance: 54.8mOhm; Saturation Current: 5.5A; Self Resonant Frequency: 20MHz; Match Code: WE-MAPI; ComponentLink1Description: Website Link; ComponentLink1URL: https://www.we-online.com/redexpert/article/74438366047?ad; ComponentLink2Description: Datasheet Link; ComponentLink2URL: https://www.we-online.com/redexpert/spec/74438366047?ad; Mount: Surface Mount; Operating Temperature Max: 125°C; Operating Temperature Min: -40°C; Packaging: Tape and Reel; Length: 5.4mm; Width: 5.4mm; Height: 2.1mm; DC Resistance Max: 63mOhm; Inductance: 4.7uH; Rated Current: 4.1A
footprint WE-MAPI_5020
simulation model 5020_74438366047_4.7u
pins: 1, 2

## 74438367010
designator L?, comment 1uH, 9A  (value not drawn)
WE-MAPI, size 5030, 1uH, 9A, 11.5mOhm; Manufacturer Part Number: 74438367010; Manufacturer: Wurth Elektronik; Case/Size Code: 5030; DC Resistance: 10mOhm; Saturation Current: 9.6A; Self Resonant Frequency: 44.5MHz; Match Code: WE-MAPI; ComponentLink1Description: Website Link; ComponentLink1URL: https://www.we-online.com/redexpert/article/74438367010?ad; ComponentLink2Description: Datasheet Link; ComponentLink2URL: https://www.we-online.com/redexpert/spec/74438367010?ad; Mount: Surface Mount; Operating Temperature Max: 125°C; Operating Temperature Min: -40°C; Packaging: Tape and Reel; Length: 5.4mm; Width: 5.4mm; Height: 3.1mm; DC Resistance Max: 11.5mOhm; Inductance: 1uH; Rated Current: 9A
footprint WE-MAPI_5030
simulation model 5030_74438367010_1u
pins: 1, 2

## 74438367022
designator L?, comment 2.2uH, 7.5A  (value not drawn)
WE-MAPI, size 5030, 2.2uH, 7.5A, 16.1mOhm; Manufacturer Part Number: 74438367022; Manufacturer: Wurth Elektronik; Case/Size Code: 5030; DC Resistance: 14mOhm; Self Resonant Frequency: 28MHz; Match Code: WE-MAPI; ComponentLink1Description: Website Link; ComponentLink1URL: https://www.we-online.com/redexpert/article/74438367022?ad; ComponentLink2Description: Datasheet Link; ComponentLink2URL: https://www.we-online.com/redexpert/spec/74438367022?ad; Mount: Surface Mount; Operating Temperature Max: 125°C; Operating Temperature Min: -40°C; Packaging: Tape and Reel; Length: 5.4mm; Width: 5.4mm; Height: 3.1mm; DC Resistance Max: 16.1mOhm; Inductance: 2.2uH; Rated Current: 7.5A; Saturation Current: 7.5A
footprint WE-MAPI_5030
simulation model 5030_74438367022_2.2u
pins: 1, 2

## 74438367033
designator L?, comment 3.3uH, 6.2A  (value not drawn)
WE-MAPI, size 5030, 3.3uH, 6.2A, 23mOhm; Manufacturer Part Number: 74438367033; Manufacturer: Wurth Elektronik; Case/Size Code: 5030; DC Resistance: 20mOhm; Saturation Current: 7.3A; Self Resonant Frequency: 22MHz; Match Code: WE-MAPI; ComponentLink1Description: Website Link; ComponentLink1URL: https://www.we-online.com/redexpert/article/74438367033?ad; ComponentLink2Description: Datasheet Link; ComponentLink2URL: https://www.we-online.com/redexpert/spec/74438367033?ad; Mount: Surface Mount; Operating Temperature Max: 125°C; Operating Temperature Min: -40°C; Packaging: Tape and Reel; Length: 5.4mm; Width: 5.4mm; Height: 3.1mm; DC Resistance Max: 23mOhm; Inductance: 3.3uH; Rated Current: 6.2A
footprint WE-MAPI_5030
simulation model 5030_74438367033_3.3u
pins: 1, 2

## 74438367047
designator L?, comment 4.7uH, 5.5A  (value not drawn)
WE-MAPI, size 5030, 4.7uH, 5.5A, 34.5mOhm; Manufacturer Part Number: 74438367047; Manufacturer: Wurth Elektronik; Case/Size Code: 5030; DC Resistance: 30mOhm; Saturation Current: 5.4A; Self Resonant Frequency: 18.5MHz; Match Code: WE-MAPI; ComponentLink1Description: Website Link; ComponentLink1URL: https://www.we-online.com/redexpert/article/74438367047?ad; ComponentLink2Description: Datasheet Link; ComponentLink2URL: https://www.we-online.com/redexpert/spec/74438367047?ad; Mount: Surface Mount; Operating Temperature Max: 125°C; Operating Temperature Min: -40°C; Packaging: Tape and Reel; Length: 5.4mm; Width: 5.4mm; Height: 3.1mm; DC Resistance Max: 34.5mOhm; Inductance: 4.7uH; Rated Current: 5.5A
footprint WE-MAPI_5030
simulation model 5030_74438367047_4.7u
pins: 1, 2

## 74438367068
designator L?, comment 6.8uH, 4.3A  (value not drawn)
WE-MAPI, size 5030, 6.8uH, 4.3A, 48.3mOhm; Manufacturer Part Number: 74438367068; Manufacturer: Wurth Elektronik; Case/Size Code: 5030; DC Resistance: 42mOhm; Saturation Current: 5.7A; Self Resonant Frequency: 15.5MHz; Match Code: WE-MAPI; ComponentLink1Description: Website Link; ComponentLink1URL: https://www.we-online.com/redexpert/article/74438367068?ad; ComponentLink2Description: Datasheet Link; ComponentLink2URL: https://www.we-online.com/redexpert/spec/74438367068?ad; Mount: Surface Mount; Operating Temperature Max: 125°C; Operating Temperature Min: -40°C; Packaging: Tape and Reel; Length: 5.4mm; Width: 5.4mm; Height: 3.1mm; DC Resistance Max: 48.3mOhm; Inductance: 6.8uH; Rated Current: 4.3A
footprint WE-MAPI_5030
simulation model 5030_74438367068_6.8u
pins: 1, 2